# Altium schematic symbol library poe_1.SCHLIB: 21 symbols
Pins are listed as number, name and electrical type; pins without a type are passive.

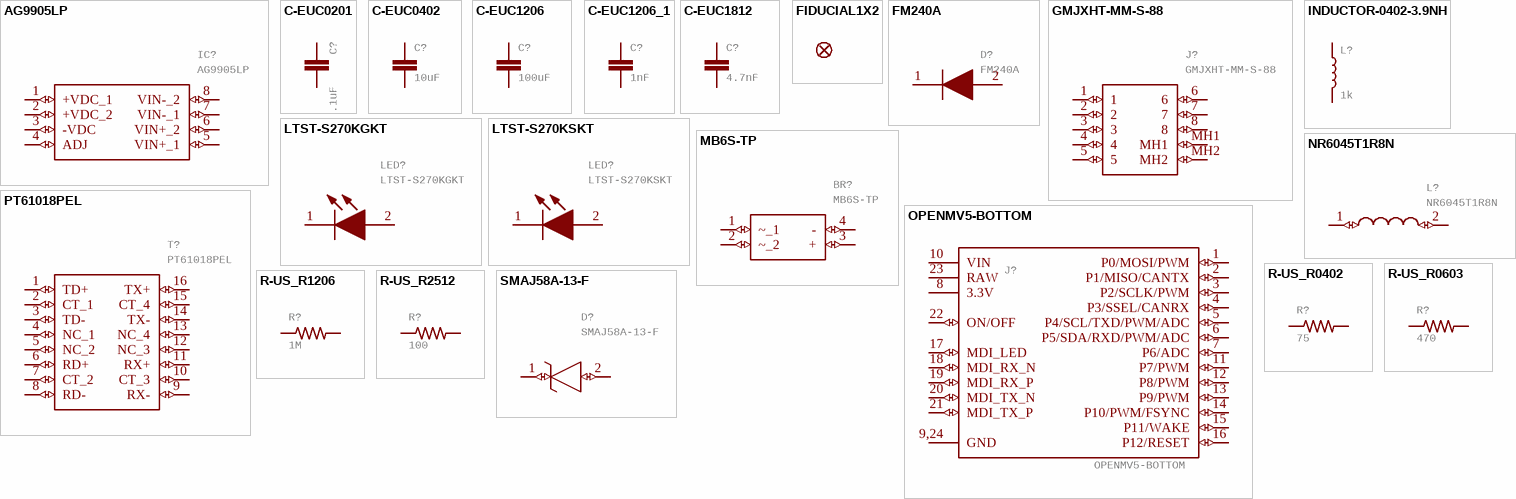
[diagram p0: symbols AG9905LP to SMAJ58A-13-F]

## AG9905LP
designator IC?
Power Management Modules IEEE802.3af PD module. 5V 7W, low profile   Source:  Datasheet; MANUFACTURER_NAME: Silvertel; GateName_1: G$1; SymbolName_1: AG9905LP; LibraryName: Ag9905LP; DeviceSetName: AG9905LP; HEIGHT: 8.5mm; MANUFACTURER_PART_NUMBER: Ag9905LP; MOUSER_PART_NUMBER: 480-AG9905LP; MOUSER_PRICE-STOCK: https://www.mouser.co.uk/ProductDetail/Silvertel/Ag9905LP?qs=OlC7AqGiEDm9ZoM6zJQCoQ%3D%3D; MPN: Ag9905LP
footprint AG9905LP
pins: 1 +VDC_1 (io), 2 +VDC_2 (io), 3 -VDC (io), 4 ADJ (io), 5 VIN+_1 (io), 6 VIN+_2 (io), 7 VIN-_1 (io), 8 VIN-_2 (io)

## C-EUC0201
designator C?, comment 0.1uF
CAPACITOR, European symbol; MPN: CL03A104KQ3NNNC; GateName_1: G$1; SymbolName_1: C-EU; DeviceName: C0201; POPULARITY: 0; LibraryName: rcl; DeviceSetName: C-EU; SPICEPREFIX: C
footprint C0201
pins: 1, 2

## C-EUC0402
designator C?, comment 10uF
CAPACITOR, European symbol; MPN: GRM155R60J106ME05D; GateName_1: G$1; SymbolName_1: C-EU; DeviceName: C0402; POPULARITY: 18; LibraryName: rcl; DeviceSetName: C-EU; SPICEPREFIX: C
footprint C0402
pins: 1, 2

## C-EUC1206
designator C?, comment 100uF
CAPACITOR, European symbol; MPN: CL31A107MQHNNWE; GateName_1: G$1; SymbolName_1: C-EU; DeviceName: C1206; POPULARITY: 54; LibraryName: rcl; DeviceSetName: C-EU; SPICEPREFIX: C
footprint C1206
pins: 1, 2

## C-EUC1206_1
designator C?, comment 1nF
CAPACITOR, European symbol; MPN: 1206B102K252CT; GateName_1: G$1; SymbolName_1: C-EU; DeviceName: C1206; POPULARITY: 54; LibraryName: rcl; DeviceSetName: C-EU; SPICEPREFIX: C
footprint C1206
pins: 1, 2

## C-EUC1812
designator C?, comment 4.7nF
CAPACITOR, European symbol; MPN: 202S43W472KV4E; GateName_1: G$1; SymbolName_1: C-EU; DeviceName: C1812; POPULARITY: 3; LibraryName: rcl; DeviceSetName: C-EU; SPICEPREFIX: C
footprint C1812
pins: 1, 2

## FIDUCIAL1X2
designator FD?  (value not drawn)  (no BOM)
Fiducial Alignment Points    Point-of-reference for pick-and-place machines and other optical instruments.; GateName_1: G$1; DeviceName: 1X2; SymbolName_1: FIDUCIAL; LibraryName: SparkFun-Aesthetics; DeviceSetName: FIDUCIAL
footprint FIDUCIAL-1X2

## FM240A
designator D?
Diodes - General Purpose, Power, Switching GP Si Rectifier SMB,2A,40V   Source:  Datasheet; MANUFACTURER_NAME: Rectron; GateName_1: G$1; SymbolName_1: FM240A; LibraryName: FM240A; DeviceSetName: FM240A; HEIGHT: 2.31mm; MANUFACTURER_PART_NUMBER: FM240A; MOUSER_PART_NUMBER: 583-FM240A; MOUSER_PRICE-STOCK: https://www.mouser.co.uk/ProductDetail/Rectron/FM240A?qs=7pEAo90IqNG7sknZwmLYhQ%3D%3D; MPN: FM240A
footprint DIOM5025X231N
pins: 1 K (io), 2 A (io)

## GMJXHT-MM-S-88
designator J?
MODJACK MIDMOUNT 8P8C SHIELD RoHS COMPLIANT   Source:  Datasheet; MANUFACTURER_NAME: Kycon; GateName_1: G$1; SymbolName_1: GMJXHT-MM-S-88; LibraryName: GMJXHT-MM-S-88; DeviceSetName: GMJXHT-MM-S-88; HEIGHT: 10.1mm; MANUFACTURER_PART_NUMBER: GMJXHT-MM-S-88; MOUSER_PART_NUMBER: 806-GMJXHT-MM-S-88; MOUSER_PRICE-STOCK: https://www.mouser.co.uk/ProductDetail/Kycon/GMJXHT-MM-S-88?qs=2OnyuXx6vpiODS6CjVUhnA%3D%3D; MPN: GMJXHT-MM-S-88
footprint GMJXHTMMS88
pins: 1 (io), 2 (io), 3 (io), 4 (io), 5 (io), 6 (io), 7 (io), 8 (io), MH1 (io), MH2 (io)

## INDUCTOR-0402-3.9NH
designator L?, comment 1k
Inductors    Resist changes in electrical current. Basically a coil of wire.   SparkFun Products:  SparkFun Load Cell Amplifier - HX711  IOIO-OTG - V2.2; MPN: BBPY00100505102Y00; GateName_1: G$1; DeviceName: -0402-3.9NH; PROD_ID: NDUC-13457; SymbolName_1: INDUCTOR; LibraryName: SparkFun-Coils; DeviceSetName: INDUCTOR
footprint 0402
pins: 1, 2

## LTST-S270KGKT
designator LED?
LED,0603,Side View,Green,35mcd Lite-On LTST-S270KGKT Green LED,571 nm 1608 (0603) Side View, Rectangle Lens SMD package   Source:  Datasheet; GateName_1: G$1; SymbolName_1: LTST-S270K; LibraryName: LTST-S270K; DeviceSetName: LTST-S270KGKT; HEIGHT: 1mm; MANUFACTURER_NAME: Lite-On; MANUFACTURER_PART_NUMBER: LTST-S270KGKT; MOUSER_PART_NUMBER: 859-LTST-S270KGKT; MOUSER_PRICE-STOCK: https://www.mouser.com/ProductDetail/Lite-On/LTST-S270KGKT?qs=oL5uk4n%2FG821%2FMiCU6RADg%3D%3D; MPN: LTST-S270KGKT
footprint LTSTS270K
pins: 1 K (io), 2 A (io)

## LTST-S270KSKT
designator LED?
LED,0603,Side View,Yellow,60mcd Lite-On LTST-S270KSKT Yellow LED, 589 nm 1608 (0603) Side View, Rectangle Lens SMD package   Source:  Datasheet; GateName_1: G$1; SymbolName_1: LTST-S270K; LibraryName: LTST-S270K; DeviceSetName: LTST-S270KSKT; HEIGHT: 1mm; MANUFACTURER_NAME: Lite-On; MANUFACTURER_PART_NUMBER: LTST-S270KSKT; MOUSER_PART_NUMBER: 859-LTST-S270KSKT; MOUSER_PRICE-STOCK: https://www.mouser.com/ProductDetail/Lite-On/LTST-S270KSKT?qs=1%252Ba%252Bh4jXs3oCxYgJuiLmrQ%3D%3D; MPN: LTST-S270KSKT
footprint LTSTS270K
pins: 1 K (io), 2 A (io)

## MB6S-TP
designator BR?
MICRO COMMERCIAL COMPONENTS - MB6S-TP - BRIDGE RECTIFIER, 500mA, 600V   Source:  Datasheet; MANUFACTURER_NAME: MCC; GateName_1: G$1; SymbolName_1: MB6S-TP; LibraryName: MB6S-TP; DeviceSetName: MB6S-TP; HEIGHT: 2.7mm; MANUFACTURER_PART_NUMBER: MB6S-TP; MOUSER_PART_NUMBER: 833-MB6S-TP; MOUSER_PRICE-STOCK: https://www.mouser.co.uk/ProductDetail/Micro-Commercial-Components-MCC/MB6S-TP?qs=O2qRfqcg9D9hSJLw3ZCqJw%3D%3D; MPN: MB6S-TP
footprint SOP254P665X270-4N
pins: 1 ~_1 (io), 2 ~_2 (io), 3 + (io), 4 - (io)

## NR6045T1R8N
designator L?
Inductor Power Shielded Wirewound 1.8uH 30% 100KHz Ferrite 3.7A 0.0234Ohm DCR 2424 T/R   Source:  Datasheet; MANUFACTURER_NAME: TAIYO YUDEN; GateName_1: G$1; SymbolName_1: NR6045T1R8N; LibraryName: NR6045T1R8N; DeviceSetName: NR6045T1R8N; HEIGHT: 4.5mm; MANUFACTURER_PART_NUMBER: NR6045T1R8N; MOUSER_PART_NUMBER: 963-NR6045T1R8N; MOUSER_PRICE-STOCK: https://www.mouser.co.uk/ProductDetail/Taiyo-Yuden/NR6045T1R8N?qs=PzICbMaShUeSTOagIkrBuw%3D%3D; MPN: NR6045T1R8N
footprint NR6045T1R8N
pins: 1 (io), 2 (io)

## OPENMV5-BOTTOM
designator J?
GateName_1: G$1; SymbolName_1: OPENMV5; LibraryName: openmv5; DeviceSetName: OPENMV5-BOTTOM
footprint OPENMV5-BOTTOM
pins: 1 P0/MOSI/PWM (io), 2 P1/MISO/CANTX (io), 3 P2/SCLK/PWM (io), 4 P3/SSEL/CANRX (io), 5 P4/SCL/TXD/PWM/ADC (io), 6 P5/SDA/RXD/PWM/ADC (io), 7 P6/ADC (io), 8 3.3V (power), 9,24 GND (power), 10 VIN (power), 11 P7/PWM (io), 12 P8/PWM (io), 13 P9/PWM (io), 14 P10/PWM/FSYNC (io), 15 P11/WAKE (io), 16 P12/RESET (io), 17 MDI_LED (io), 18 MDI_RX_N (io), 19 MDI_RX_P (io), 20 MDI_TX_N (io), 21 MDI_TX_P (io), 22 ON/OFF (io), 23 RAW (power)

## PT61018PEL
designator T?
BOURNS - PT61018PEL - TRANSFORMER, LAN, 1CT:1CT, 350UH, SMD   Source:  Datasheet; GateName_1: G$1; SymbolName_1: PT61018PEL; LibraryName: PT61018PEL; DeviceSetName: PT61018PEL; HEIGHT: 5.65mm; MANUFACTURER_NAME: Bourns; MANUFACTURER_PART_NUMBER: PT61018PEL; MOUSER_PART_NUMBER: 652-PT61018PEL; MOUSER_PRICE-STOCK: https://www.mouser.co.uk/ProductDetail/Bourns/PT61018PEL?qs=G1LhLIAbs1x4VqIQtFg%252BEw%3D%3D; MPN: PT61018PEL
footprint SOIC127P930X565-16N
pins: 1 TD+ (io), 2 CT_1 (io), 3 TD- (io), 4 NC_1 (io), 5 NC_2 (io), 6 RD+ (io), 7 CT_2 (io), 8 RD- (io), 9 RX- (io), 10 CT_3 (io), 11 RX+ (io), 12 NC_3 (io), 13 NC_4 (io), 14 TX- (io), 15 CT_4 (io), 16 TX+ (io)

## R-US_R0402
designator R?, comment 75
RESISTOR, American symbol; MPN: 0402WGF750JTCE; GateName_1: G$1; SymbolName_1: R-US; DeviceName: R0402; DeviceSetName: R-US_; POPULARITY: 34; LibraryName: rcl; SPICEPREFIX: R
footprint R0402
pins: 1, 2

## R-US_R0603
designator R?, comment 470
RESISTOR, American symbol; MPN: CR0603-FX-4700ELF; GateName_1: G$1; SymbolName_1: R-US; DeviceName: R0603; DeviceSetName: R-US_; POPULARITY: 77; LibraryName: rcl; SPICEPREFIX: R
footprint R0603
pins: 1, 2

## R-US_R1206
designator R?, comment 1M
RESISTOR, American symbol; MPN: RMCF1206FT1M00; GateName_1: G$1; SymbolName_1: R-US; DeviceName: R1206; DeviceSetName: R-US_; POPULARITY: 19; LibraryName: rcl; SPICEPREFIX: R
footprint R1206
pins: 1, 2

## R-US_R2512
designator R?, comment 100
RESISTOR, American symbol; MPN: RC2512JK-07100RL; GateName_1: G$1; SymbolName_1: R-US; DeviceName: R2512; DeviceSetName: R-US_; POPULARITY: 0; LibraryName: rcl; SPICEPREFIX: R
footprint R2512
pins: 1, 2

## SMAJ58A-13-F
designator D?
Diodes Inc SMAJ58A-13-F, Uni-Directional TVS Diode, 400W, 2-Pin DO-214AC   Source:  Datasheet; MANUFACTURER_NAME: Diodes Inc.; MPN: SMAJ58A/TR13; GateName_1: G$1; SymbolName_1: SMAJ58A-13-F; LibraryName: SMAJ58A-13-F; DeviceSetName: SMAJ58A-13-F; HEIGHT: 2.3mm; MANUFACTURER_PART_NUMBER: SMAJ58A-13-F; MOUSER_PART_NUMBER: 621-SMAJ58A-13-F; MOUSER_PRICE-STOCK: https://www.mouser.co.uk/ProductDetail/Diodes-Incorporated/SMAJ58A-13-F?qs=gaDBXWSqsDABoBswSRRvMQ%3D%3D
footprint DIOM5226X230N
pins: 1 K (io), 2 A (io)